# Altium footprint library LocalLib.PcbLib: 36 footprints (part 1 of 3)
Each footprint in its own frame and in the unit in brackets; x right, y up, seen from the top. Pads: shape width x height; smd on the part's side, far side on the other; paste and mask are expansions set on the pad; w line width, h text height; cw(c..) or ccw(c..) is an arc to the next point about the centre after c.
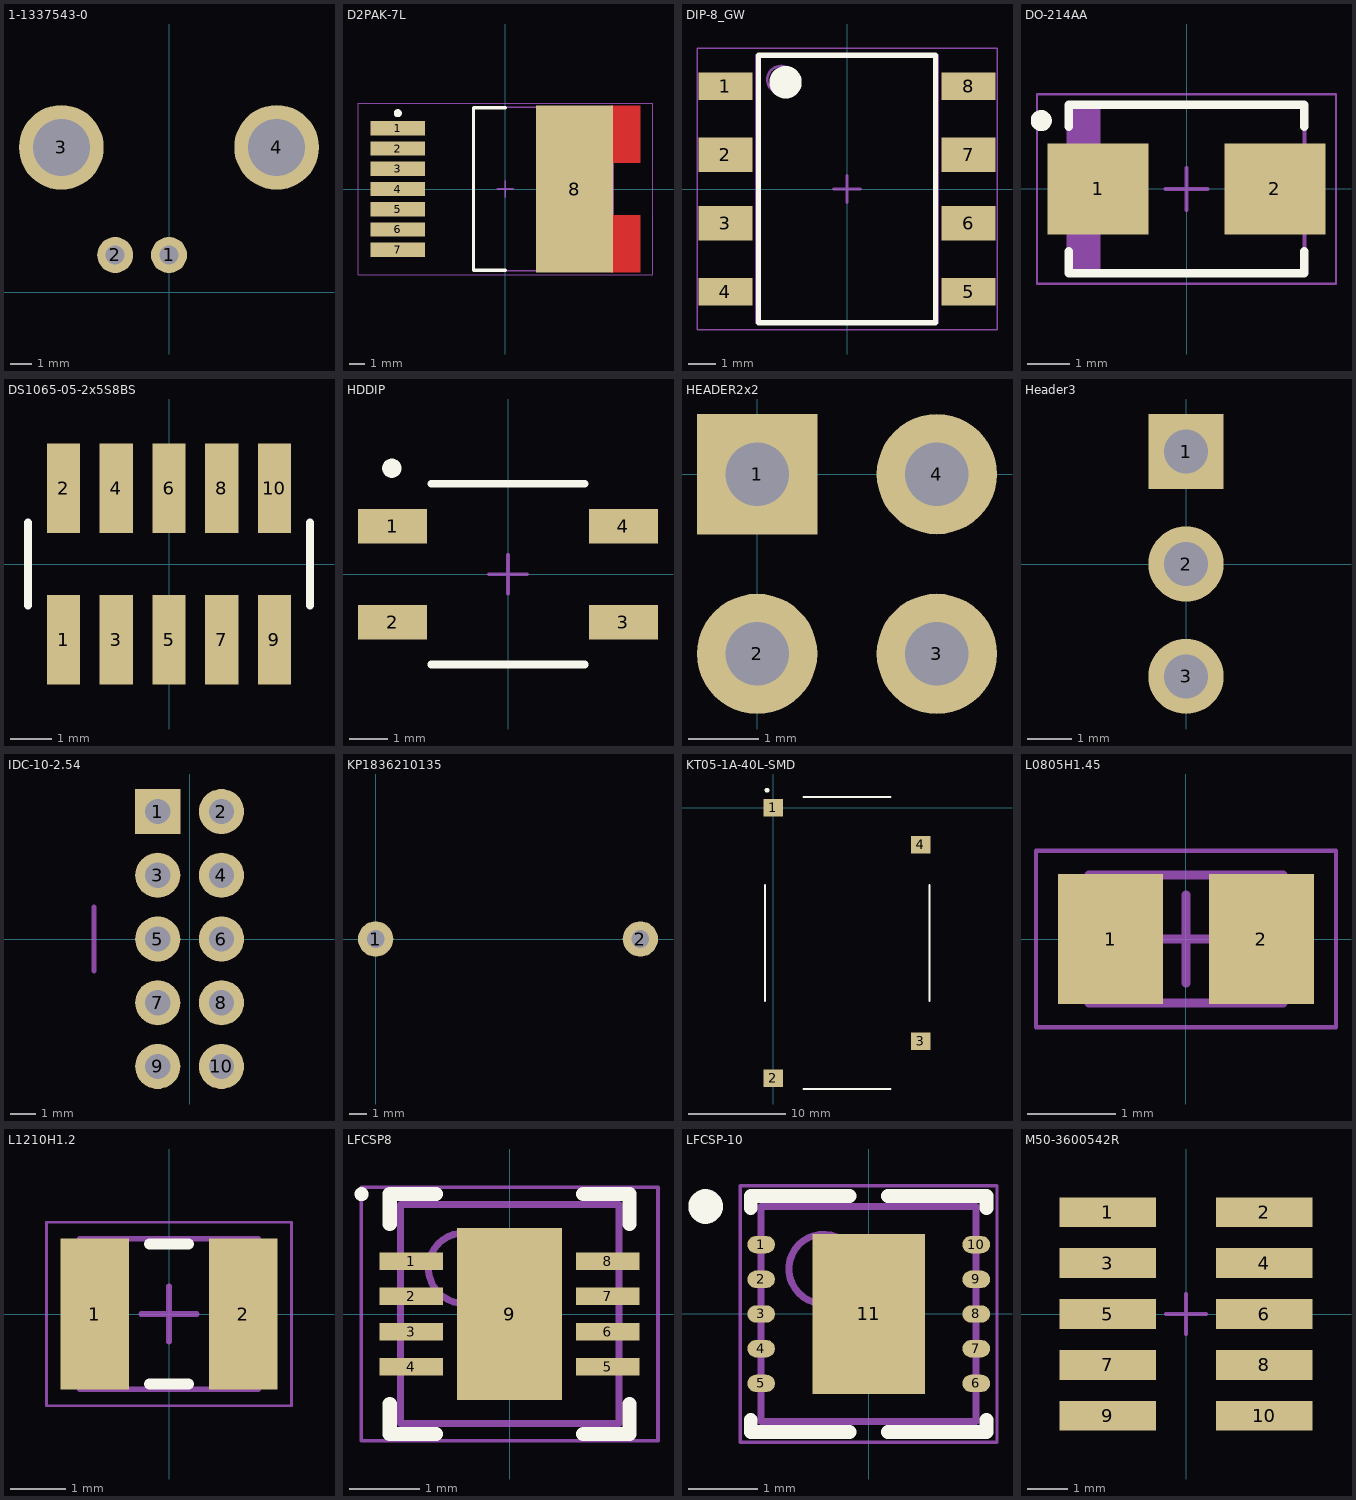
[diagram p0: the footprints below, top view; thin cyan lines are the x and y axes]

## 1-1337543-0 [mm]
pads (4):
  round 1.7 hole 0.9: 1(0,1.77) 2(-2.54,1.77)
  round 4 hole 2.7: 3(-5.08,6.85) 4(5.08,6.85)
3D body "c-1-1337543-0-f-3d.stp": height 15.55, standoff -4.55, extent -7.35,-0.6 7.35,34.9

## D2PAK-7L [mm] "TO, 8-Pads, Body 7,66x8,48mm (max), IPC Medium Density"
height 4.57
pads (8):
  rect 3.4x0.9 smd: 1(-6.75,3.81) 2(-6.75,2.54) 3(-6.75,1.27) 4(-6.75,0) 5(-6.75,-1.27) 6(-6.75,-2.54) 7(-6.75,-3.81)
  rect 4.82x10.48 smd: 8(4.35,0)
Top Layer:
  region: 8.478,-1.65 6.661,-1.65 6.661,-5.24 8.478,-5.24
  region: 8.478,1.65 6.661,1.65 6.661,5.24 8.478,5.24
Top Overlay:
  circle w0.25: c-6.75,4.76 r0.125
  lines w0.2: 0,-5.1 -2,-5.1 -2,5.1 0,5.1
Mechanical 13:
  lines w0.1: 6.78,-5.125 6.78,5.125 ; 7.13,-5.125 -2,-5.125 -2,5.125 7.13,5.125
Mechanical 15:
  lines w0.05: -9.25,-5.375 9.25,-5.375 9.25,5.375 -9.25,5.375 -9.25,-5.375
  lines w0.1: -0.5,0 0.5,0 ; 0,-0.5 0,0.5
3D body "DPAK127P1618X457-8N.step": height 4.57, standoff 0, extent -7.764,-5.125 8.414,5.125

## DIP-8_GW [mm] "SOP, 8-Leads, Body 9,65x6,64mm, Pitch 2,54mm, IPC Medium Density"
height 3.56
pads (8):
  rect 2x1.016 smd: 1(-4.5,3.81) 4(-4.5,-3.81) 5(4.5,-3.81) 8(4.5,3.81)
  rect 2x1.27 smd: 2(-4.5,1.27) 3(-4.5,-1.27) 6(4.5,-1.27) 7(4.5,1.27)
Top Overlay:
  circle w0.6: c-2.275,3.95 r0.3
  lines w0.2: -3.275,-4.95 -3.275,4.95 3.275,4.95 3.275,-4.95 -3.275,-4.95
Mechanical 13:
  circle w0.1: c-2.45,4.05 r0.5
  lines w0.1: -3.35,-4.95 -3.35,4.95 3.35,4.95 3.35,-4.95 -3.35,-4.95
Mechanical 15:
  lines w0.05: -5.55,-5.2 -5.55,5.2 5.55,5.2 5.55,-5.2 -5.55,-5.2
  lines w0.1: -0.5,0 0.5,0 ; 0,-0.5 0,0.5
3D body "SOP254P960X356-8N.step": height 3.56, standoff 0, extent -4.825,-4.95 4.825,4.95

## DO-214AA [mm] "Molded Diode, 2-Leads, Body 5,35x3,63mm, IPC Medium Density"
height 2.65
pads (2):
  rect 2.4x2.15 smd: 1(-2.1,0) 2(2.1,0)
Top Overlay:
  circle w0.25: c-3.45,1.625 r0.125
  lines w0.2: -2.8,-1.475 -2.8,-2 2.8,-2 2.8,-1.475 ; -2.8,1.475 -2.8,2 2.8,2 2.8,1.475
Mechanical 13:
  rectangle: -2.8,-1.975 -2.047,1.975
  lines w0.1: -2.8,-1.975 2.8,-1.975 2.8,1.975 -2.8,1.975 -2.8,-1.975
Mechanical 15:
  lines w0.05: -3.55,-2.25 3.55,-2.25 3.55,2.25 -3.55,2.25 -3.55,-2.25
  lines w0.1: -0.5,0 0.5,0 ; 0,-0.5 0,0.5
3D body "DIOM5436X26N.step": height 2.65, standoff 0, extent -3.02,-1.975 3.02,1.975

## DS1065-05-2x5S8BS [mm]
pads (10):
  rect 0.8x2.15 smd: 1(-2.54,-1.825) 2(-2.54,1.825) 3(-1.27,-1.825) 4(-1.27,1.825) 5(0,-1.825) 6(0,1.825) 7(1.27,-1.825) 8(1.27,1.825) 9(2.54,-1.825) 10(2.54,1.825)
Top Overlay:
  lines w0.2: -3.4,-1 -3.4,0 -3.4,1 ; 3.4,-1 3.4,0 3.4,1
3D body "BB02-CL102-X0X-000000_rev1.9.STEP": height 4.55, standoff -0.05, extent -3.35,-2.401 3.35,2.4

## HDDIP [mm]
pads (4):
  rect 1.8x0.9 smd: 1(-3,1.25) 2(-3,-1.25) 3(3,-1.25) 4(3,1.25)
Top Overlay:
  circle w0.25: c-3.02,2.755 r0.125
  lines w0.2: -1.995,-2.35 0,-2.35 1.995,-2.35 ; -1.995,2.35 0,2.35 1.995,2.35
Mechanical 15:
  lines w0.1: -0.5,0 0.5,0 ; 0,-0.5 0,0.5
3D body "User Library-CBRHD-01-1.STEP": height 2.81, standoff -0.01, extent -3.367,-2.349 3.367,2.35

## HEADER2x2 [mm]
pads (4):
  rect 1.7x1.7 hole 0.9: 1(0,0)
  round 1.7 hole 0.9: 2(0,-2.54) 3(2.54,-2.54) 4(2.54,0)
3D body "User Library-HEADER 2x1 Pitch 2_54x2_54.step": height 8.46, standoff -2.84, extent -1.27,-3.81 1.27,1.27
3D body "User Library-HEADER 2x1 Pitch 2_54x2_54.step": height 8.46, standoff -2.84, extent 1.27,-3.81 3.81,1.27

## Header3 [mm]
pads (3):
  rect 1.7x1.7 hole 1: 1(0,2.54)
  round 1.7 hole 1: 2(0,0) 3(0,-2.54)
3D body "User Library-1x3 TH Pitch 2_54mm.STEP": height 9.2, standoff -3.5, extent -1.27,-3.81 1.27,3.81

## IDC-10-2.54 [mm]
pads (10):
  rect 1.8x1.8 hole 1: 1(-1.27,5.08)
  round 1.8 hole 1: 2(1.27,5.08) 3(-1.27,2.54) 4(1.27,2.54) 5(-1.27,0) 6(1.27,0) 7(-1.27,-2.54) 8(1.27,-2.54) 9(-1.27,-5.08) 10(1.27,-5.08)
Mechanical 15:
  lines w0.2: -3.81,-1.27 -3.81,1.27
3D body "User Library-IDC-10M.STEP": height 9.3, standoff -3.1, extent -4.4,-10.15 4.7,10.15

## KP1836210135 [mm]
pads (2):
  round 2 hole 1: 1(0,0) 2(15,0)
3D body: height 10.5, standoff 0, extent -1.5,-2.74 16.5,2.76

## KT05-1A-40L-SMD [mm]
pads (4):
  rect 2x1.8 smd: 1(0,0) 2(0,-27.94) 3(15.24,-24.12) 4(15.24,-3.82)
Top Overlay:
  circle w0.25: c-0.641,1.815 r0.125
  lines w0.2: -0.875,-19.963 -0.875,-13.97 -0.875,-7.977 ; 3.126,-29.07 7.62,-29.07 12.114,-29.07 ; 3.126,1.13 7.62,1.13 12.114,1.13 ; 16.129,-19.963 16.129,-13.97 16.129,-7.977
3D body "Резизтор2.STEP": height 8.7, standoff 0, extent -0.875,-29.07 16.129,1.13

## L0805H1.45 [mm] "Chip Inductor, 2-Leads, Body 2,00x1,25mm, IPC Medium Density"
height 1.45
pads (2):
  rect 1.19x1.47 smd: 1(-0.855,0) 2(0.855,0)
Mechanical 13:
  lines w0.1: -1.1,-0.725 -1.1,0.725 1.1,0.725 1.1,-0.725 -1.1,-0.725
Mechanical 15:
  lines w0.05: -1.7,-1 -1.7,1 1.7,1 1.7,-1 -1.7,-1
  lines w0.1: -0.5,0 0.5,0 ; 0,-0.5 0,0.5
3D body "INDC2012X14N.step": height 1.45, standoff 0, extent -1.1,-0.725 1.1,0.725

## L1210H1.2 [mm] "Chip Inductor, 2-Leads, Body 3,00x2,50mm, IPC Medium Density"
height 1.2
pads (2):
  rect 1.23x2.72 smd: 1(-1.335,0) 2(1.335,0)
Top Overlay:
  lines w0.2: -0.35,-1.26 0.35,-1.26 ; -0.35,1.26 0.35,1.26
Mechanical 13:
  lines w0.1: -1.6,-1.35 1.6,-1.35 1.6,1.35 -1.6,1.35 -1.6,-1.35
Mechanical 15:
  lines w0.05: -2.2,-1.65 2.2,-1.65 2.2,1.65 -2.2,1.65 -2.2,-1.65
  lines w0.1: -0.5,0 0.5,0 ; 0,-0.5 0,0.5
3D body "INDC3025X12N.step": height 1.2, standoff 0, extent -1.6,-1.35 1.6,1.35

## LFCSP8 [mm] "SON, 8-Leads, Body 3,00x3,00mm, Pitch 0,50mm, Thermal Pad 2,44x1,49mm, IPC Medium Density"
height 0.8
pads (9):
  rect 0.9x0.25 smd: 1(-1.395,0.75) 2(-1.395,0.25) 3(-1.395,-0.25) 4(-1.395,-0.75) 5(1.395,-0.75) 6(1.395,-0.25) 7(1.395,0.25) 8(1.395,0.75)
  rect 1.49x2.44 smd: 9(0,0)
Top Overlay:
  circle w0.1: c-2.1,1.7 r0.05
  lines w0.2: -1.7,-1.275 -1.7,-1.7 -1.045,-1.7 ; -1.7,1.275 -1.7,1.7 -1.045,1.7 ; 1.045,-1.7 1.7,-1.7 1.7,-1.275 ; 1.045,1.7 1.7,1.7 1.7,1.275
Mechanical 13:
  circle w0.1: c-0.65,0.65 r0.5
  lines w0.1: -1.55,-1.55 1.55,-1.55 1.55,1.55 -1.55,1.55 -1.55,-1.55
Mechanical 15:
  lines w0.05: -2.105,-1.8 2.105,-1.8 2.105,1.8 -2.105,1.8 -2.105,-1.8
  lines w0.1: -0.5,0 0.5,0 ; 0,-0.5 0,0.5
3D body "SON50P300X80_HS-9N.step": height 0.8, standoff 0, extent -1.57,-1.55 1.57,1.55

## LFCSP-10 [mm] "QFN, 10-Leads, Body 3,00x3,00mm, Pitch 0,50mm, Thermal Pad 1,62x2,31mm, IPC High Density"
height 0.8
pads (11):
  oval 0.4x0.25 smd: 1(-1.55,1) 2(-1.55,0.5) 3(-1.55,0) 4(-1.55,-0.5) 5(-1.55,-1) 6(1.55,-1) 7(1.55,-0.5) 8(1.55,0) 9(1.55,0.5) 10(1.55,1)
  rect 1.62x2.31 smd: 11(0,0)
Top Overlay:
  circle w0.25: c-2.35,1.55 r0.125
  lines w0.2: -1.7,-1.525 -1.7,-1.7 -0.275,-1.7 ; -1.7,1.525 -1.7,1.7 -0.275,1.7 ; 0.275,-1.7 1.7,-1.7 1.7,-1.525 ; 0.275,1.7 1.7,1.7 1.7,1.525
Mechanical 13:
  circle w0.1: c-0.65,0.65 r0.5
  lines w0.1: -1.55,-1.55 1.55,-1.55 1.55,1.55 -1.55,1.55 -1.55,-1.55
Mechanical 15:
  lines w0.05: -1.85,-1.85 1.85,-1.85 1.85,1.85 -1.85,1.85 -1.85,-1.85
  lines w0.1: -0.5,0 0.5,0 ; 0,-0.5 0,0.5
3D body "QFN50P300X300X80_HS-11L.step": height 0.8, standoff 0, extent -1.63,-1.55 1.63,1.55

## M50-3600542R [mm]
pads (10):
  rect 2.4x0.74 smd: 1(-1.95,2.54) 2(1.95,2.54) 3(-1.95,1.27) 4(1.95,1.27) 5(-1.95,0) 6(1.95,0) 7(-1.95,-1.27) 8(1.95,-1.27) 9(-1.95,-2.54) 10(1.95,-2.54)
Mechanical 15:
  lines w0.1: -0.5,0 0.5,0 ; 0,-0.5 0,0.5
3D body "User Library-RM127_10pin_Header.step": height 4.5, standoff 0, extent -2.75,-3.175 2.75,3.175